# Altium integrated library TI Microcontroller MSP430 16-bit Ultra-Low Power.IntLib: 1463 symbols (part 96 of 130)
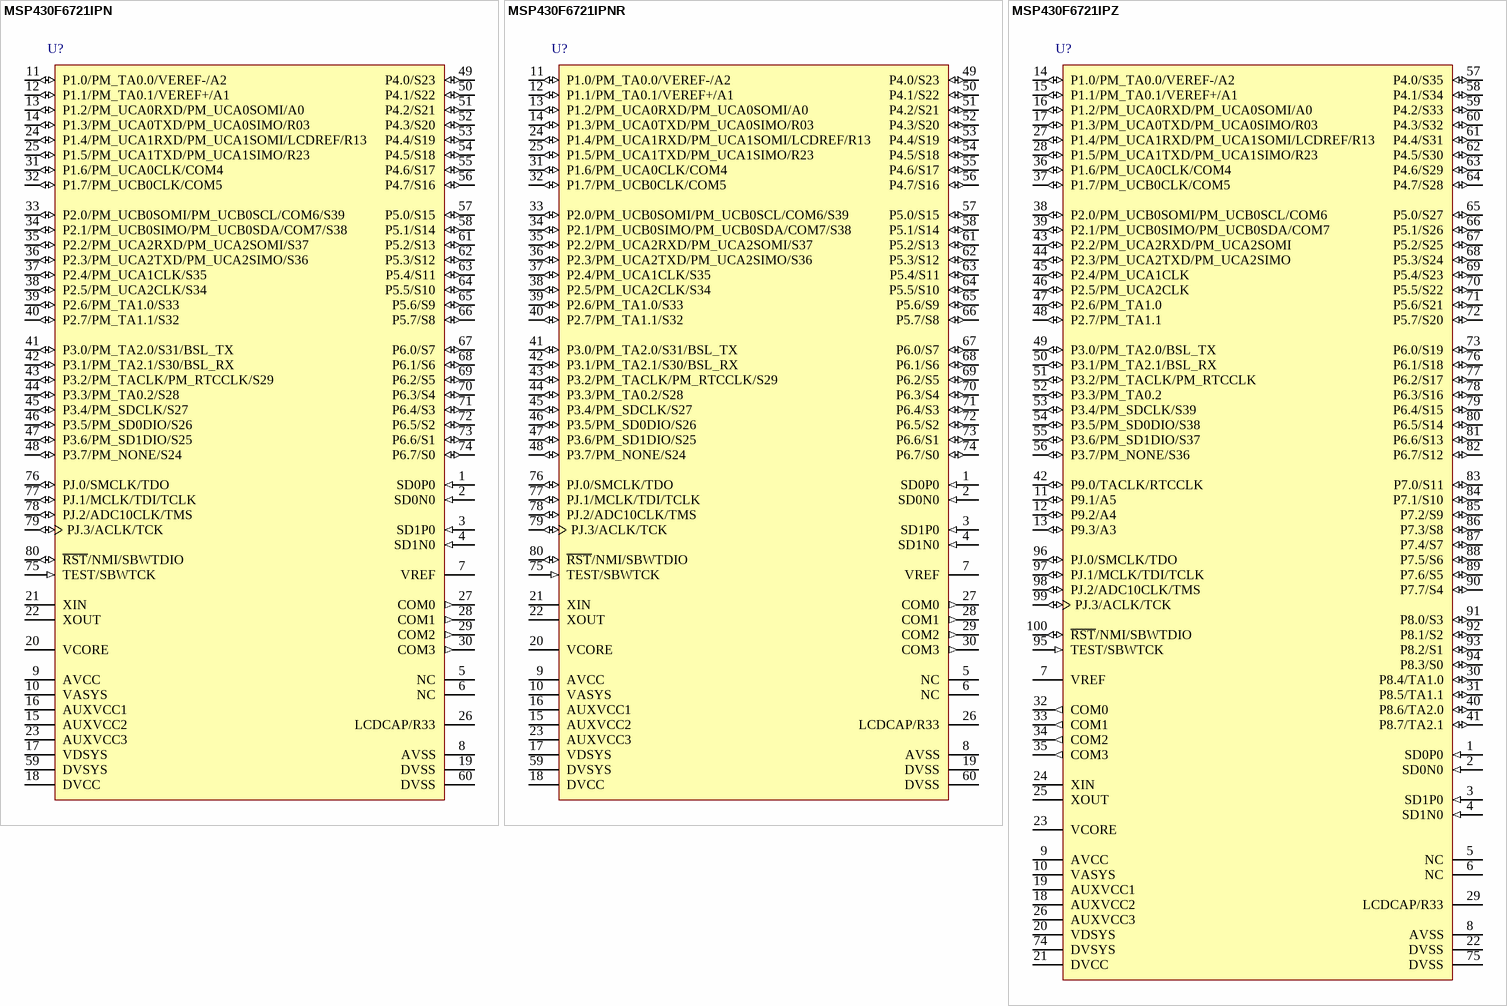
[diagram p383: symbols MSP430F6721IPN to MSP430F6721IPZ]

## MSP430F6721IPNR
designator U?
25 MHz Mixed Signal Microcontroller with 32 KB Flash, 2048 B SRAM and 72 GPIOs, -40 to 85 degC, 80-pin QFP (PN), Green (RoHS & no Sb/Br); Manufacturer: Texas Instruments; PartNumber: MSP430F6721IPNR; ADC: 10-bit SAR; ADC Channels: 8; Brown Out Reset: Yes; DMA: 3; Flash(KB): 32; Frequency(MHz): 25; GPIO: 72; LCD Segments: 320; Multiplier: 32x32; Real-Time Clock: Yes, with battery backup; SRAM(B): 2048; SubFamily: 6 Series with LCD; Timers - 16-bit: 4; USCI_B (I2C & SPI): 1; DatasheetVersion: SLAS731B; PackageReference: PN80; PackageDescription: 80-Pin Plastic Quad Flat Pack, Body 12 x 12 mm, Pitch 0.5 mm; Supplier 1: Digi-Key; Supplier Part Number 1: 296-30416-ND; Supplier 2: Newark; Supplier Part Number 2: 76T6249; Supplier 3: Mouser; Supplier Part Number 3: 595-MSP430F6721IPN; Eco-Plan: Green (RoHS & no Sb/Br); Temp Sensor: Yes; USCI_A (UART/LIN/IrDA/SPI): 3; Watchdog: Yes; Mounting Technology: Surface Mount; Code_JEDEC: MS-018; ComponentLink1Description: Manufacturer URL; ComponentLink1URL: http://www.ti.com/; ComponentLink2Description: Datasheet; ComponentLink2URL: http://www.ti.com/general/docs/lit/getliterature.tsp?genericPartNumber=MSP430F6721&fileType=pdf; ComponentLink3Description: Package Specification; ComponentLink3URL: http://www.ti.com/lit/ml/mtqf010a/mtqf010a.pdf
footprint TI-PN80_N (QFP, 80-Leads, Body 12x12mm, Pitch 0.5mm, IPC Medium Density)
pins: 1 SD0P0 (in) "SD24_B positive analog input for converter 0", 2 SD0N0 (in) "SD24_B negative analog input for converter 0", 3 SD1P0 (in) "SD24_B positive analog input for converter 1", 4 SD1N0 (in) "SD24_B negative analog input for converter 1", 5 NC, 6 NC, 7 VREF "SD24_B external reference voltage", 8 AVSS (power) "Analog ground supply", 9 AVCC (power) "Analog power supply", 10 VASYS (power) "Analog power supply selected between AVCC, AUXVCC1, AUXVCC2. Connect recommended capacitor value of CVSYS", 11 P1.0/PM_TA0.0/VEREF-/A2 (io), 12 P1.1/PM_TA0.1/VEREF+/A1 (io), 13 P1.2/PM_UCA0RXD/PM_UCA0SOMI/A0 (io), 14 P1.3/PM_UCA0TXD/PM_UCA0SIMO/R03 (io), 15 AUXVCC2 (power) "Auxiliary power supply AUXVCC2", 16 AUXVCC1 (power) "Auxiliary power supply AUXVCC1", 17 VDSYS (power) "Digital power supply selected between DVCC, AUXVCC1, AUXVCC2. Connect recommended capacitor value of CVSYS", 18 DVCC (power) "Digital power supply", 19 DVSS (power) "Digital ground supply", 20 VCORE "Regulated core power supply (internal use only, no external current loading)", 21 XIN "Input terminal for crystal oscillator", 22 XOUT "Output terminal for crystal oscillator", 23 AUXVCC3 (power) "Auxiliary power supply AUXVCC3 for back up subsystem", 24 P1.4/PM_UCA1RXD/PM_UCA1SOMI/LCDREF/R13 (io), 25 P1.5/PM_UCA1TXD/PM_UCA1SIMO/R23 (io), 26 LCDCAP/R33, 27 COM0 (out) "LCD common output COM0 for LCD backplane", 28 COM1 (out) "LCD common output COM1 for LCD backplane", 29 COM2 (out) "LCD common output COM2 for LCD backplane", 30 COM3 (out) "LCD common output COM3 for LCD backplane", 31 P1.6/PM_UCA0CLK/COM4 (io), 32 P1.7/PM_UCB0CLK/COM5 (io), 33 P2.0/PM_UCB0SOMI/PM_UCB0SCL/COM6/S39 (io), 34 P2.1/PM_UCB0SIMO/PM_UCB0SDA/COM7/S38 (io), 35 P2.2/PM_UCA2RXD/PM_UCA2SOMI/S37 (io), 36 P2.3/PM_UCA2TXD/PM_UCA2SIMO/S36 (io), 37 P2.4/PM_UCA1CLK/S35 (io), 38 P2.5/PM_UCA2CLK/S34 (io), 39 P2.6/PM_TA1.0/S33 (io), 40 P2.7/PM_TA1.1/S32 (io), 41 P3.0/PM_TA2.0/S31/BSL_TX (io), 42 P3.1/PM_TA2.1/S30/BSL_RX (io), 43 P3.2/PM_TACLK/PM_RTCCLK/S29 (io), 44 P3.3/PM_TA0.2/S28 (io), 45 P3.4/PM_SDCLK/S27 (io), 46 P3.5/PM_SD0DIO/S26 (io), 47 P3.6/PM_SD1DIO/S25 (io), 48 P3.7/PM_NONE/S24 (io), 49 P4.0/S23 (io), 50 P4.1/S22 (io), 51 P4.2/S21 (io), 52 P4.3/S20 (io), 53 P4.4/S19 (io), 54 P4.5/S18 (io), 55 P4.6/S17 (io), 56 P4.7/S16 (io), 57 P5.0/S15 (io), 58 P5.1/S14 (io), 59 DVSYS (power) "Digital power supply for I/Os", 60 DVSS (power) "Digital ground supply", 61 P5.2/S13 (io), 62 P5.3/S12 (io), 63 P5.4/S11 (io), 64 P5.5/S10 (io), 65 P5.6/S9 (io), 66 P5.7/S8 (io), 67 P6.0/S7 (io), 68 P6.1/S6 (io), 69 P6.2/S5 (io), 70 P6.3/S4 (io), 71 P6.4/S3 (io), 72 P6.5/S2 (io), 73 P6.6/S1 (io), 74 P6.7/S0 (io), 75 TEST/SBWTCK (in), 76 PJ.0/SMCLK/TDO (io), 77 PJ.1/MCLK/TDI/TCLK (io), 78 PJ.2/ADC10CLK/TMS (io), 79 PJ.3/ACLK/TCK (io), 80 ~{RST}/NMI/SBWTDIO (io)

## MSP430F6721IPZ
designator U?
25 MHz Mixed Signal Microcontroller with 32 KB Flash, 2048 B SRAM and 72 GPIOs, -40 to 85 degC, 100-pin QFP (PZ), Green (RoHS & no Sb/Br); Manufacturer: Texas Instruments; PartNumber: MSP430F6721IPZ; ADC: 10-bit SAR; ADC Channels: 8; Brown Out Reset: Yes; DMA: 3; Flash(KB): 32; Frequency(MHz): 25; GPIO: 72; LCD Segments: 320; Multiplier: 32x32; Real-Time Clock: Yes, with battery backup; SRAM(B): 2048; SubFamily: 6 Series with LCD; Timers - 16-bit: 4; USCI_B (I2C & SPI): 1; DatasheetVersion: SLAS731B; PackageVersion: 4040149/B; PackageReference: PZ100; PackageDescription: 100-Pin Plastic Flat Pack, Body 14 x 14 mm, Pitch 0.5 mm; Supplier 1: Digi-Key; Supplier Part Number 1: MSP430F6721IPNR-ND; Supplier 2: Newark; Supplier Part Number 2: 76T6250; Supplier 3: Mouser; Supplier Part Number 3: 595-MSP430F6721IPNR; Eco-Plan: Green (RoHS & no Sb/Br); Temp Sensor: Yes; USCI_A (UART/LIN/IrDA/SPI): 3; Watchdog: Yes; Mounting Technology: Surface Mount; Code_JEDEC: MS-026; ComponentLink1Description: Manufacturer URL; ComponentLink1URL: http://www.ti.com/; ComponentLink2Description: Datasheet; ComponentLink2URL: http://www.ti.com/general/docs/lit/getliterature.tsp?genericPartNumber=MSP430F6721&fileType=pdf; ComponentLink3Description: Package Specification; ComponentLink3URL: http://www.ti.com/lit/ml/mtqf013a/mtqf013a.pdf
footprint TI-PZ100_N (QFP, 100-Leads, Body 14x14mm, Pitch 0.5mm, IPC Medium Density)
pins: 1 SD0P0 (in) "SD24_B positive analog input for converter 0", 2 SD0N0 (in) "SD24_B negative analog input for converter 0", 3 SD1P0 (in) "SD24_B positive analog input for converter 1", 4 SD1N0 (in) "SD24_B negative analog input for converter 1", 5 NC "No internal connection", 6 NC "No internal connection", 7 VREF "SD24_B external reference voltage", 8 AVSS (power) "Analog ground supply", 9 AVCC (power) "Analog power supply", 10 VASYS (power) "Analog power supply selected between AVCC, AUXVCC1, AUXVCC2. Connect recommended capacitor value of CVSYS", 11 P9.1/A5 (io), 12 P9.2/A4 (io), 13 P9.3/A3 (io), 14 P1.0/PM_TA0.0/VEREF-/A2 (io), 15 P1.1/PM_TA0.1/VEREF+/A1 (io), 16 P1.2/PM_UCA0RXD/PM_UCA0SOMI/A0 (io), 17 P1.3/PM_UCA0TXD/PM_UCA0SIMO/R03 (io), 18 AUXVCC2 (power) "Auxiliary power supply AUXVCC2", 19 AUXVCC1 (power) "Auxiliary power supply AUXVCC1", 20 VDSYS (power) "Digital power supply selected between DVCC, AUXVCC1, AUXVCC2. Connect recommended capacitor value of CVSYS", 21 DVCC (power) "Digital power supply", 22 DVSS (power) "Digital ground supply", 23 VCORE "Regulated core power supply (internal use only, no external current loading)", 24 XIN "Input terminal for crystal oscillator", 25 XOUT "Output terminal for crystal oscillator", 26 AUXVCC3 (power) "Auxiliary power supply AUXVCC3 for back up subsystem", 27 P1.4/PM_UCA1RXD/PM_UCA1SOMI/LCDREF/R13 (io), 28 P1.5/PM_UCA1TXD/PM_UCA1SIMO/R23 (io), 29 LCDCAP/R33, 30 P8.4/TA1.0 (io), 31 P8.5/TA1.1 (io), 32 COM0 (out) "LCD common output COM0 for LCD backplane", 33 COM1 (out) "LCD common output COM1 for LCD backplane", 34 COM2 (out) "LCD common output COM2 for LCD backplane", 35 COM3 (out) "LCD common output COM3 for LCD backplane", 36 P1.6/PM_UCA0CLK/COM4 (io), 37 P1.7/PM_UCB0CLK/COM5 (io), 38 P2.0/PM_UCB0SOMI/PM_UCB0SCL/COM6 (io), 39 P2.1/PM_UCB0SIMO/PM_UCB0SDA/COM7 (io), 40 P8.6/TA2.0 (io), 41 P8.7/TA2.1 (io), 42 P9.0/TACLK/RTCCLK (io), 43 P2.2/PM_UCA2RXD/PM_UCA2SOMI (io), 44 P2.3/PM_UCA2TXD/PM_UCA2SIMO (io), 45 P2.4/PM_UCA1CLK (io), 46 P2.5/PM_UCA2CLK (io), 47 P2.6/PM_TA1.0 (io), 48 P2.7/PM_TA1.1 (io), 49 P3.0/PM_TA2.0/BSL_TX (io), 50 P3.1/PM_TA2.1/BSL_RX (io), 51 P3.2/PM_TACLK/PM_RTCCLK (io), 52 P3.3/PM_TA0.2 (io), 53 P3.4/PM_SDCLK/S39 (io), 54 P3.5/PM_SD0DIO/S38 (io), 55 P3.6/PM_SD1DIO/S37 (io), 56 P3.7/PM_NONE/S36 (io), 57 P4.0/S35 (io), 58 P4.1/S34 (io), 59 P4.2/S33 (io), 60 P4.3/S32 (io), 61 P4.4/S31 (io), 62 P4.5/S30 (io), 63 P4.6/S29 (io), 64 P4.7/S28 (io), 65 P5.0/S27 (io), 66 P5.1/S26 (io), 67 P5.2/S25 (io), 68 P5.3/S24 (io), 69 P5.4/S23 (io), 70 P5.5/S22 (io), 71 P5.6/S21 (io), 72 P5.7/S20 (io), 73 P6.0/S19 (io), 74 DVSYS (power) "Digital power supply for I/Os", 75 DVSS (power) "Digital ground supply", 76 P6.1/S18 (io), 77 P6.2/S17 (io), 78 P6.3/S16 (io), 79 P6.4/S15 (io), 80 P6.5/S14 (io), 81 P6.6/S13 (io), 82 P6.7/S12 (io), 83 P7.0/S11 (io), 84 P7.1/S10 (io), 85 P7.2/S9 (io), 86 P7.3/S8 (io), 87 P7.4/S7 (io), 88 P7.5/S6 (io), 89 P7.6/S5 (io), 90 P7.7/S4 (io), 91 P8.0/S3 (io), 92 P8.1/S2 (io), 93 P8.2/S1 (io), 94 P8.3/S0 (io), 95 TEST/SBWTCK (in), 96 PJ.0/SMCLK/TDO (io), 97 PJ.1/MCLK/TDI/TCLK (io), 98 PJ.2/ADC10CLK/TMS (io), 99 PJ.3/ACLK/TCK (io), 100 ~{RST}/NMI/SBWTDIO (io)

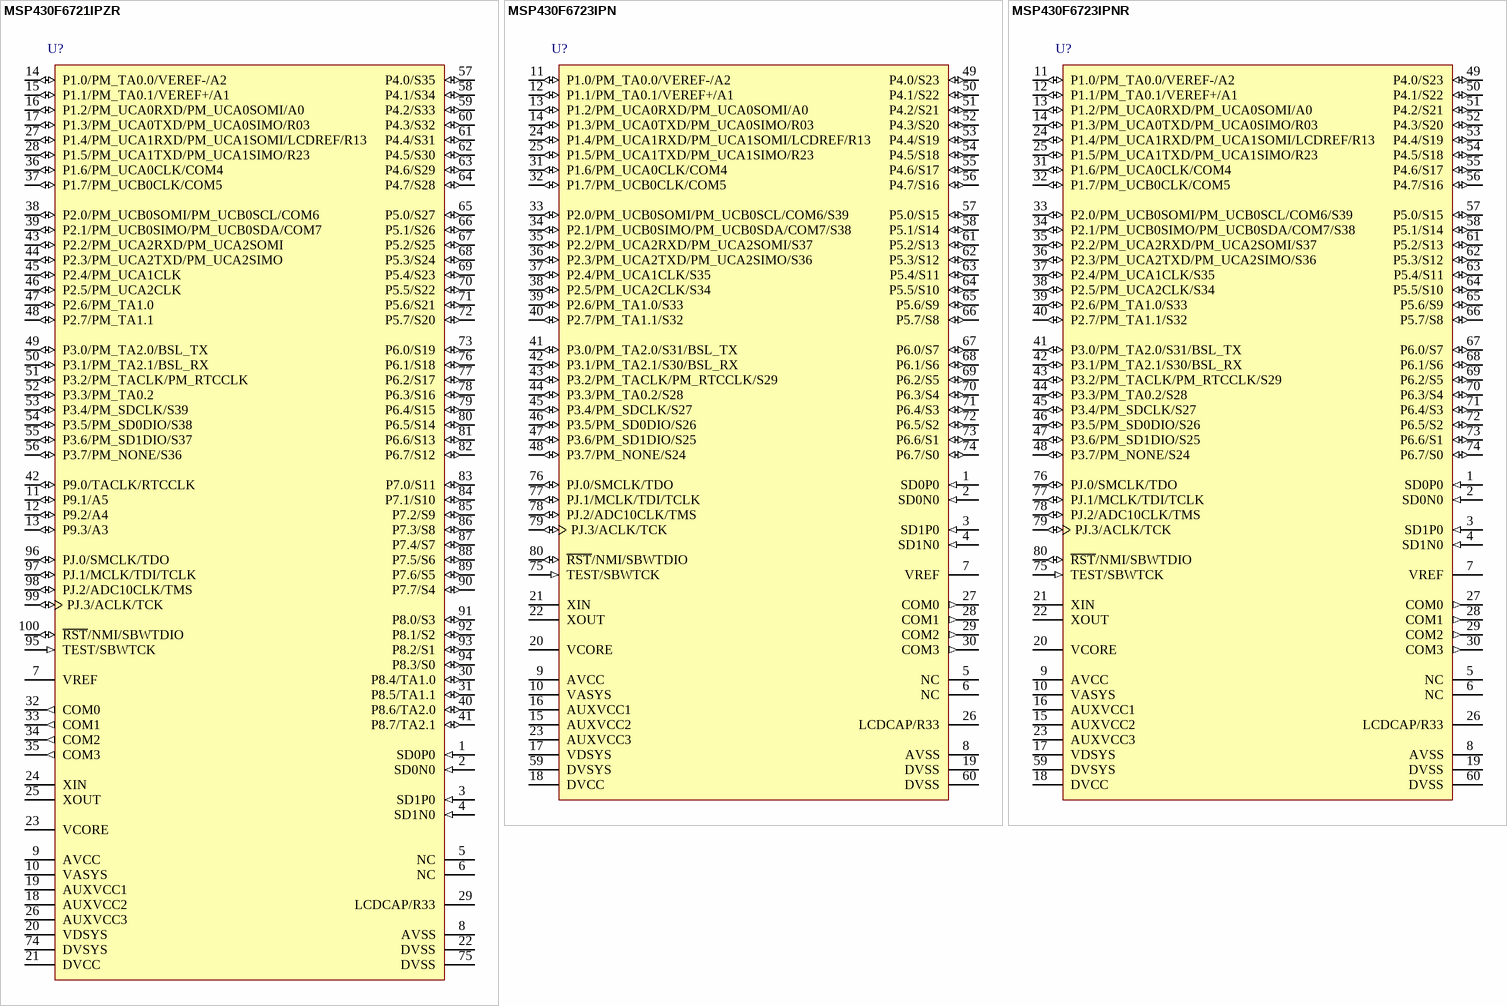
[diagram p158: symbols MSP430F6721IPZR to MSP430F6723IPNR]